# EAGLE library part OLIMEX_CONNECTORS_USB_SHIELD (library iMX233-OLinuXino-Micro_Rev_D)
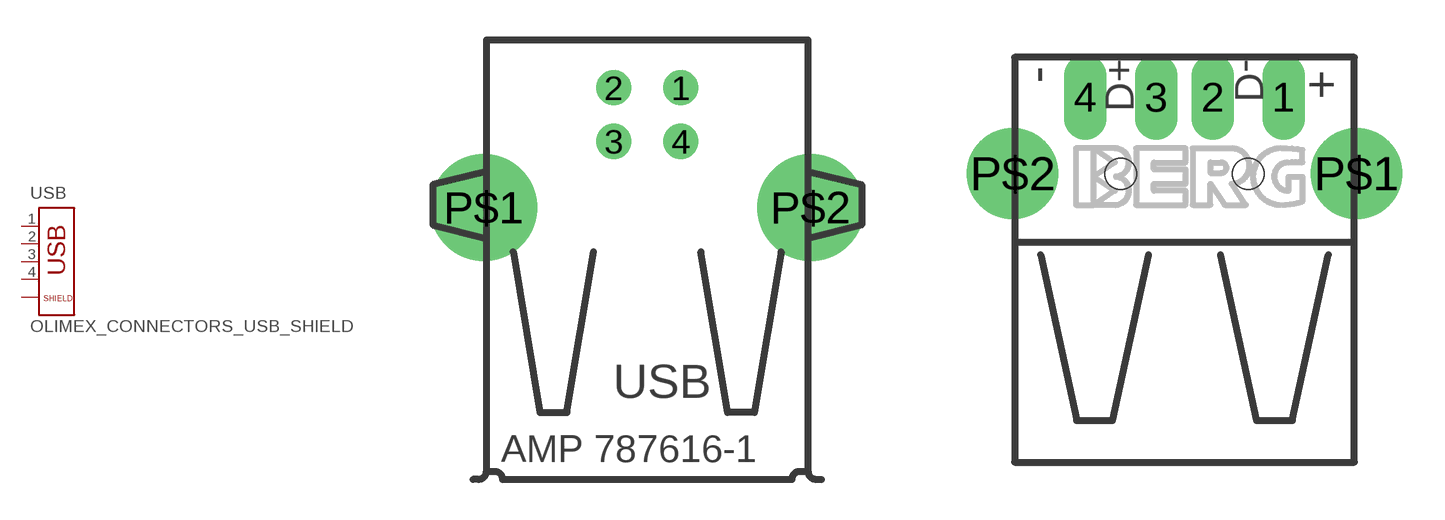
[diagram p1: symbol with the pads of OLIMEX_CONNECTORS_USB_NEAR_BLACK; footprints OLIMEX_CONNECTORS_USB_NEAR_BLACK, OLIMEX_CONNECTORS_USB_PN87520_DEV_PTH]

Designator prefix USB

## OLIMEX_CONNECTORS_USB_SHIELD  [OLIMEX_CONNECTORS_USB_NEAR_BLACK]
1  1  pas
2  2  pas
3  3  pas
4  4  pas
P$1  5  in
P$2  6  in

## OLIMEX_CONNECTORS_USB_SHIELD1  [OLIMEX_CONNECTORS_USB_PN87520_DEV_PTH]
Pads as for OLIMEX_CONNECTORS_USB_NEAR_BLACK

## OLIMEX_CONNECTORS_USB_SHIELD2  [OLIMEX_CONNECTORS_USB_PN87520_DEV_SMD]
Pads as for OLIMEX_CONNECTORS_USB_NEAR_BLACK

## OLIMEX_CONNECTORS_USB_SHIELD3  [OLIMEX_CONNECTORS_USB_PN87520_HOST_PTH]
Pads as for OLIMEX_CONNECTORS_USB_NEAR_BLACK

## OLIMEX_CONNECTORS_USB_SHIELD4  [OLIMEX_CONNECTORS_USB_PN87520_HOST_SMD???]
Pads as for OLIMEX_CONNECTORS_USB_NEAR_BLACK

## OLIMEX_CONNECTORS_USB_SHIELDOLI  [OLIMEX_CONNECTORS_USB_PADS_PK3]
1  1  pas
2  2  pas
3  3  pas
4  4  pas
P$5  5  in
P$6  6  in

## OLIMEX_CONNECTORS_USB_SHIELDUSB_A_VERTICAL  [OLIMEX_CONNECTORS_USB_A_VERTICAL_PTH]
1  1  pas
2  2  pas
3  3  pas
4  4  pas
P$3  5  in
P$4  6  in

## OLIMEX_CONNECTORS_USB_SHIELDUSB_B_SMD  [OLIMEX_CONNECTORS_USB_PADS]
Pads as for OLIMEX_CONNECTORS_USB_PADS_PK3

## Footprint OLIMEX_CONNECTORS_USB_NEAR_BLACK (pad centres in mm)
drill 0.8: 1 1.25,6.5; 2 -1.25,6.5; 3 -1.25,4.5; 4 1.25,4.5
drill 2.6 pad 4: P$1 -6.096,2.032; P$2 6.096,2.032

## Footprint OLIMEX_CONNECTORS_USB_PN87520_DEV_PTH (pad centres in mm)
drill 1 long: 1 3.5,2.71; 2 1,2.71; 3 -1,2.71; 4 -3.5,2.71
drill 2.2: P$1 6.07,0; P$2 -6.07,0
hole 1.1 at -2.25,0
hole 1.1 at 2.25,0

## Footprint OLIMEX_CONNECTORS_USB_PN87520_DEV_SMD (pad centres in mm)
smd 1.4 x 3: 1 3.5,2.7; 2 1,2.7; 3 -1,2.7; 4 -3.5,2.7
drill 2.2: P$1 6.07,0; P$2 -6.07,0
hole 1.1 at -2.25,0
hole 1.1 at 2.25,0

## Footprint OLIMEX_CONNECTORS_USB_PN87520_HOST_PTH (pad centres in mm)
drill 1 long: 1 -3.5,2.71; 2 -1,2.71; 3 1,2.71; 4 3.5,2.71
drill 2.2: P$1 6.07,0; P$2 -6.07,0

## Footprint OLIMEX_CONNECTORS_USB_PN87520_HOST_SMD??? (pad centres in mm)
smd 1.524 x 3.048: 1 -3.5,2.7; 2 -1,2.7; 3 1,2.7; 4 3.5,2.7
drill 2.2: P$1 6.07,0; P$2 -6.07,0

## Footprint OLIMEX_CONNECTORS_USB_PADS_PK3 (pad centres in mm)
for use only with PIC KIT3
smd 1.626 x 3.556: 1 1.067,10.287; 2 -1.067,10.287
smd 1.626 x 3.556 bottom: 3 -1.067,10.287; 4 1.067,10.287
smd 3.048 x 5.08 bottom: P$5 -6.604,11.049
smd 2.032 x 5.08 bottom: P$6 6.096,11.049

## Footprint OLIMEX_CONNECTORS_USB_A_VERTICAL_PTH (pad centres in mm)
drill 1: 1 3.45,12.75; 2 3.45,14.75; 3 3.45,16.75; 4 3.45,18.75
drill 1.5: P$1 0.6,12.25; P$2 6.3,12.25; P$3 6.3,19.25; P$4 0.6,19.25

## Footprint OLIMEX_CONNECTORS_USB_PADS (pad centres in mm)
smd 1.626 x 3.556: 1 1.067,10.287; 2 -1.067,10.287
smd 1.626 x 3.556 bottom: 3 -1.067,10.287; 4 1.067,10.287
smd 3.556 x 5.08 bottom: P$5 -6.858,11.049; P$6 6.858,11.049